# Altium footprint library trafo.PCBLIB: 80 footprints (part 5 of 5)
Each footprint in its own frame and in the unit in brackets; x right, y up, seen from the top. Pads: shape width x height; smd on the part's side, far side on the other; paste and mask are expansions set on the pad; w line width, h text height; cw(c..) or ccw(c..) is an arc to the next point about the centre after c.
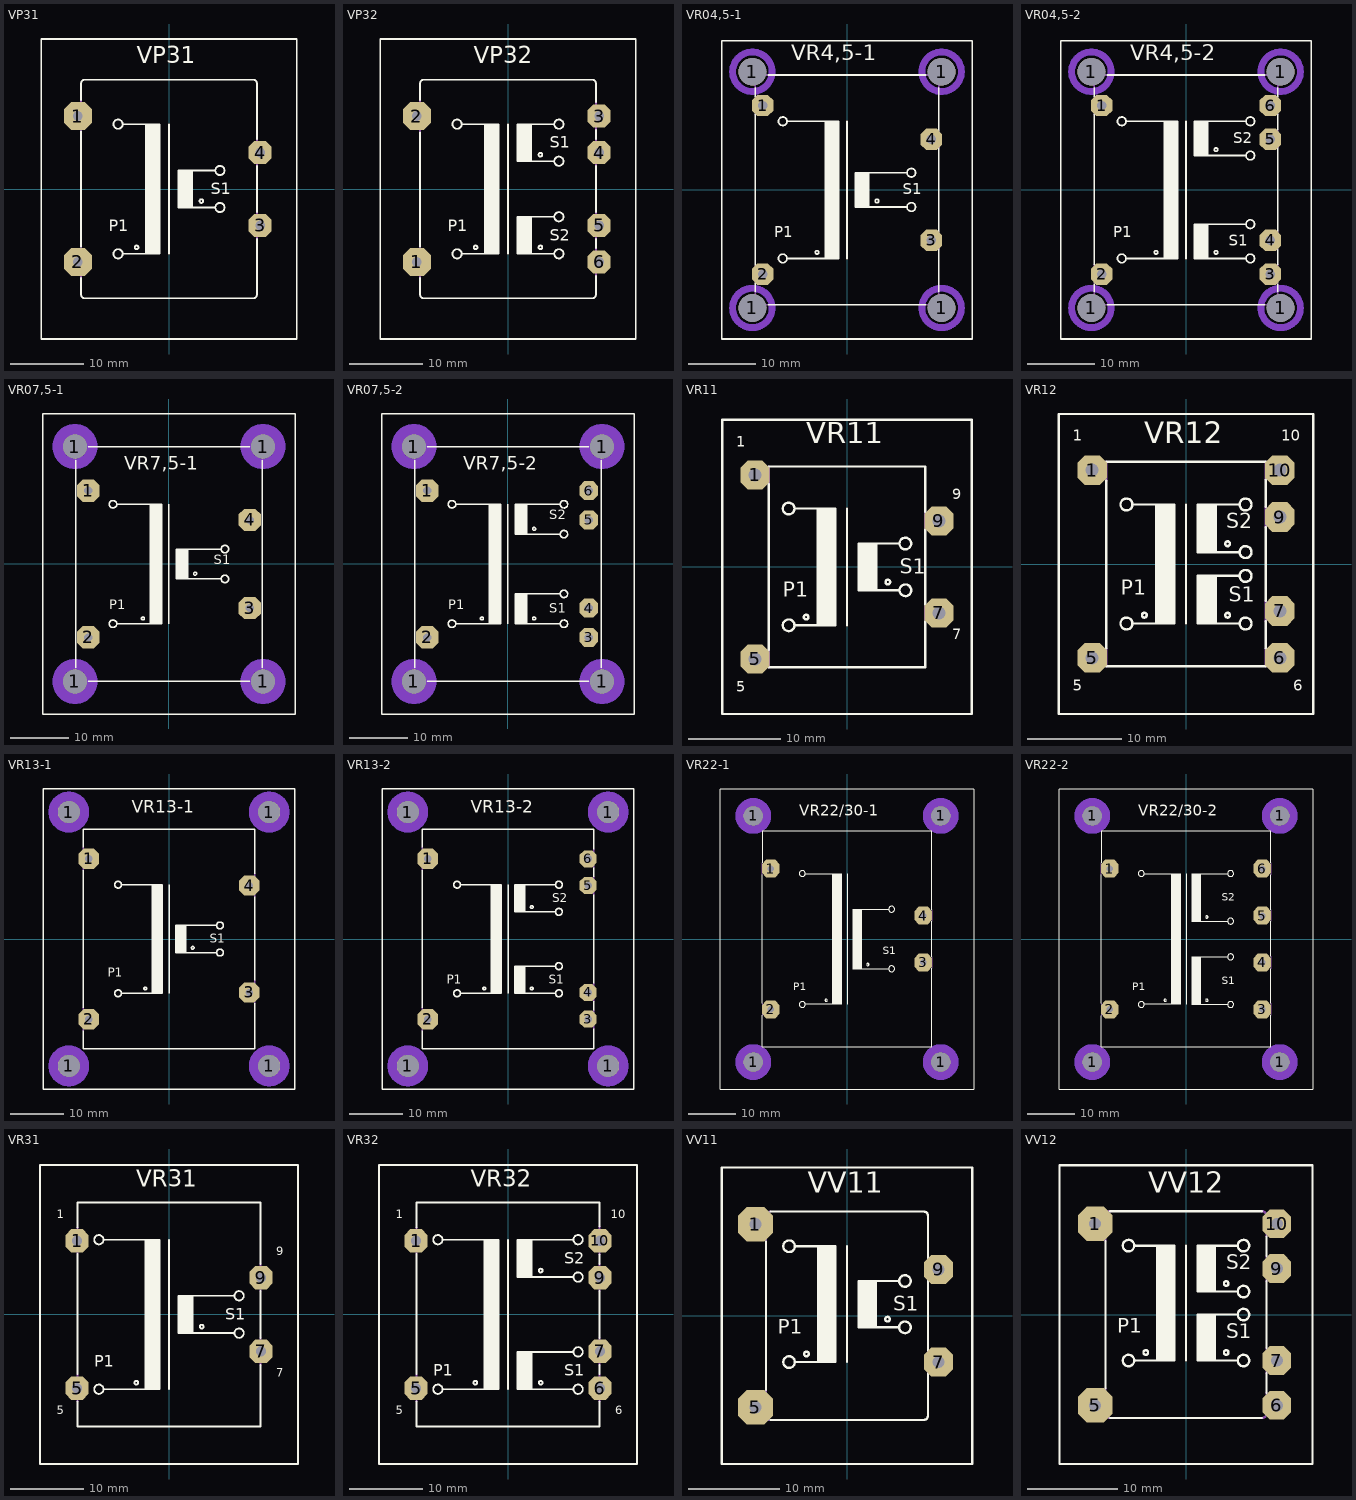
[diagram p4: the footprints below, top view; thin cyan lines are the x and y axes]

## VP31 [mil]
pads (4):
  oct 150x150 hole 52: 1(-492,394) 2(-492,-394)
  oct 125x125 hole 52: 3(492,-197) 4(492,197)
Top Overlay:
  circle w10: c-175,-315 r10
  circle w10: c175,-65 r10
  circle w10: c-275,-350 r25
  circle w10: c-275,350 r25
  circle w10: c275,-100 r25
  circle w10: c275,100 r25
  rectangle: -125,-350 -50,350
  rectangle: 50,-100 125,100
  lines w10: -475,-480 -475,-570 ccw(c-455,-570) -455,-590 455,-590 ccw(c455,-570) 475,-570 475,-270 ; -475,-310 -475,310 ; -475,480 -475,570 cw(c-455,570) -455,590 455,590 cw(c455,570) 475,570 475,270 ; -250,-350 -125,-350 ; -250,350 -125,350 ; 0,-350 0,350 ; 250,-100 125,-100 ; 250,100 125,100 ; 475,-125 475,125 ; -125,-350 -125,350 ; -125,-350 -50,-350 -50,350 -125,350 ; 125,-100 50,-100 50,100 125,100 ; 125,-100 125,100 ; -690,-810 690,-810 690,810 -690,810 -690,-810
  text "P1" at -325,-250 h108.5
  text "S1" at 225,-50 h108.5
  text "VP31" at -175,650 h155
Mechanical 16:
  lines w10: -475,-480 -475,-310 ; -475,310 -475,480 ; 475,-270 475,-125 ; 475,125 475,270

## VP32 [mil]
pads (6):
  oct 150x150 hole 52: 1(-492,-394) 2(-492,394)
  oct 125x125 hole 52: 3(492,394) 4(492,197) 5(492,-197) 6(492,-394)
Top Overlay:
  circle w10: c-175,-315 r10
  circle w10: c175,185 r10
  circle w10: c175,-315 r10
  circle w10: c-275,-350 r25
  circle w10: c-275,350 r25
  circle w10: c275,-350 r25
  circle w10: c275,-150 r25
  circle w10: c275,150 r25
  circle w10: c275,350 r25
  rectangle: -125,-350 -50,350
  rectangle: 50,150 125,350
  rectangle: 50,-350 125,-150
  lines w10: -475,-480 -475,-570 ccw(c-455,-570) -455,-590 455,-590 ccw(c455,-570) 475,-570 475,-470 ; -475,-310 -475,305 ; -475,480 -475,570 cw(c-455,570) -455,590 455,590 cw(c455,570) 475,570 475,470 ; -250,-350 -125,-350 ; -250,350 -125,350 ; 0,-350 0,350 ; 250,-350 125,-350 ; 250,-150 125,-150 ; 250,150 125,150 ; 250,350 125,350 ; 475,-320 475,-270 ; 475,-125 475,125 ; 475,270 475,320 ; -125,-350 -125,350 ; -125,-350 -50,-350 -50,350 -125,350 ; 125,-350 50,-350 50,-150 125,-150 ; 125,-350 125,-150 ; 125,150 50,150 50,350 125,350 ; 125,150 125,350 ; -690,-810 690,-810 690,810 -690,810 -690,-810
  text "P1" at -325,-250 h108.5
  text "S1" at 225,200 h108.5
  text "S2" at 225,-300 h108.5
  text "VP32" at -185,650 h155
Mechanical 16:
  lines w10: -475,-480 -475,-310 ; -475,305 -475,480 ; 475,-470 475,-320 ; 475,-270 475,-125 ; 475,125 475,270 ; 475,320 475,470

## VR04,5-1 [mil]
pads (8):
  round 162 hole 162: 1(-552,-689) 1(-552,689) 1(552,-689) 1(552,689)
  oct 125x125 hole 55: 1(-492,492) 2(-492,-492) 3(492,-295) 4(492,295)
Bottom Layer keep-out:
  circle w40: c-552,-689 r115
  circle w40: c-552,689 r115
  circle w40: c552,689 r115
  circle w40: c552,-689 r115
Top Overlay:
  circle w10: c-175,-365 r10
  circle w10: c175,-65 r10
  circle w10: c-375,-400 r25
  circle w10: c-375,400 r25
  circle w10: c375,100 r25
  circle w10: c375,-100 r25
  rectangle: -125,-400 -50,400
  rectangle: 50,-100 125,100
  lines w10: -535,-595 -535,-545 ; -535,-440 -535,440 ; -535,545 -535,595 ; -460,-670 460,-670 ; -460,670 460,670 ; -350,-400 -125,-400 ; -350,400 -125,400 ; 0,-400 0,400 ; 350,-100 125,-100 ; 350,100 125,100 ; 535,-595 535,-345 ; 535,-245 535,245 ; 535,345 535,595 ; -125,-400 -125,400 ; -125,-400 -50,-400 -50,400 -125,400 ; 125,-100 50,-100 50,100 125,100 ; 125,-100 125,100 ; -730,-870 730,-870 730,870 -730,870 -730,-870
  text "VR4,5-1" at -325,725 h155
  text "S1" at 325,-50 h108.5
  text "P1" at -425,-300 h108.5
Mechanical 16:
  lines w10: -535,-595 -535,-670 -460,-670 ; -535,-545 -535,-440 ; -535,440 -535,545 ; -535,595 -535,670 -460,670 ; 460,-670 535,-670 535,-595 ; 460,670 535,670 535,595 ; 535,-345 535,-245 ; 535,245 535,345
Via Holes:
  circle w40: c-552,-689 r115
  circle w40: c-552,689 r115
  circle w40: c552,689 r115
  circle w40: c552,-689 r115

## VR04,5-2 [mil]
pads (10):
  round 162 hole 162: 1(-552,-689) 1(-552,689) 1(552,-689) 1(552,689)
  oct 125x125 hole 55: 1(-492,492) 2(-492,-492) 3(492,-492) 4(492,-295) 5(492,295) 6(492,492)
Bottom Layer keep-out:
  circle w40: c-552,-689 r115
  circle w40: c-552,689 r115
  circle w40: c552,689 r115
  circle w40: c552,-689 r115
Top Overlay:
  circle w10: c-175,-365 r10
  circle w10: c175,235 r10
  circle w10: c-375,-400 r25
  circle w10: c-375,400 r25
  circle w10: c375,400 r25
  circle w10: c375,200 r25
  circle w10: c175,-365 r10
  circle w10: c375,-200 r25
  circle w10: c375,-400 r25
  rectangle: -125,-400 -50,400
  rectangle: 50,-400 125,-200
  rectangle: 50,200 125,400
  lines w10: -535,-595 -535,-550 ; -535,-435 -535,440 ; -535,545 -535,595 ; -460,-670 460,-670 ; -460,670 460,670 ; -350,-400 -125,-400 ; -350,400 -125,400 ; 0,-400 0,400 ; 350,-400 125,-400 ; 350,-200 125,-200 ; 350,200 125,200 ; 350,400 125,400 ; 535,-595 535,-550 ; 535,-435 535,-350 ; 535,-240 535,245 ; 535,350 535,440 ; 535,545 535,595 ; -125,-400 -125,400 ; -125,-400 -50,-400 -50,400 -125,400 ; 125,-400 50,-400 50,-200 125,-200 ; 125,-400 125,-200 ; 125,200 50,200 50,400 125,400 ; 125,200 125,400 ; -730,-870 -730,870 730,870 730,-870 -730,-870
  text "VR4,5-2" at -325,725 h155
  text "P1" at -425,-300 h108.5
  text "S1" at 250,-350 h108.5
  text "S2" at 275,250 h108.5
Mechanical 16:
  lines w10: -535,-595 -535,-670 -460,-670 ; -535,-550 -535,-435 ; -535,440 -535,545 ; -535,595 -535,670 -460,670 ; 460,-670 535,-670 535,-595 ; 460,670 535,670 535,595 ; 535,-550 535,-435 ; 535,-350 535,-240 ; 535,245 535,350 ; 535,440 535,545
Via Holes:
  circle w40: c-552,-689 r115
  circle w40: c-552,689 r115
  circle w40: c552,689 r115
  circle w40: c552,-689 r115

## VR07,5-1 [mil]
pads (8):
  round 162 hole 162: 1(-630,-787) 1(-630,787) 1(630,-787) 1(630,787)
  oct 150x150 hole 55: 1(-541,492) 2(-541,-492) 3(541,-295) 4(541,295)
Bottom Layer keep-out:
  circle w70: c-630,-787 r115
  circle w70: c-630,787 r115
  circle w70: c630,787 r115
  circle w70: c630,-787 r115
Top Overlay:
  circle w10: c-175,-365 r10
  circle w10: c175,-65 r10
  circle w10: c-375,-400 r25
  circle w10: c-375,400 r25
  circle w10: c375,100 r25
  circle w10: c375,-100 r25
  rectangle: -125,-400 -50,400
  rectangle: 50,-100 125,100
  lines w10: -625,-695 -625,695 ; -540,-785 540,-785 ; -540,785 540,785 ; -350,-400 -125,-400 ; -350,400 -125,400 ; 0,-400 0,400 ; 350,-100 125,-100 ; 350,100 125,100 ; 625,-695 625,695 ; -125,-400 -125,400 ; -125,-400 -50,-400 -50,400 -125,400 ; 125,-100 50,-100 50,100 125,100 ; 125,-100 125,100 ; -845,-1005 -845,1005 845,1005 845,-1005 -845,-1005
  text "VR7,5-1" at -300,600 h155
  text "P1" at -400,-325 h108.5
  text "S1" at 300,-25 h108.5
Mechanical 16:
  lines w10: -625,-695 -625,-785 -540,-785 ; -625,695 -625,785 -540,785 ; 540,-785 625,-785 625,-695 ; 540,785 625,785 625,695
Via Holes:
  circle w70: c-630,-787 r115
  circle w70: c-630,787 r115
  circle w70: c630,787 r115
  circle w70: c630,-787 r115

## VR07,5-2 [mil]
pads (10):
  round 162 hole 162: 1(-630,-787) 1(-630,787) 1(630,-787) 1(630,787)
  oct 150x150 hole 55: 1(-541,492) 2(-541,-492)
  oct 125x125 hole 55: 3(541,-492) 4(541,-295) 5(541,295) 6(541,492)
Bottom Layer keep-out:
  circle w70: c-630,-787 r115
  circle w70: c630,-787 r115
  circle w70: c630,787 r115
  circle w70: c-630,787 r115
Top Overlay:
  circle w10: c-175,-365 r10
  circle w10: c175,235 r10
  circle w10: c-375,-400 r25
  circle w10: c-375,400 r25
  circle w10: c375,400 r25
  circle w10: c375,200 r25
  circle w10: c175,-365 r10
  circle w10: c375,-200 r25
  circle w10: c375,-400 r25
  rectangle: -125,-400 -50,400
  rectangle: 50,-400 125,-200
  rectangle: 50,200 125,400
  lines w10: -625,-695 -625,695 ; -540,-785 540,-785 ; -540,785 540,785 ; -350,-400 -125,-400 ; -350,400 -125,400 ; 0,-400 0,400 ; 350,-400 125,-400 ; 350,-200 125,-200 ; 350,200 125,200 ; 350,400 125,400 ; 625,-695 625,695 ; -125,-400 -125,400 ; -125,-400 -50,-400 -50,400 -125,400 ; 125,-400 50,-400 50,-200 125,-200 ; 125,-400 125,-200 ; 125,200 50,200 50,400 125,400 ; 125,200 125,400 ; -845,-1005 -845,1005 845,1005 845,-1005 -845,-1005
  text "VR7,5-2" at -300,600 h155
  text "P1" at -400,-325 h108.5
  text "S1" at 275,-350 h108.5
  text "S2" at 275,275 h108.5
Mechanical 16:
  lines w10: -625,-695 -625,-785 -540,-785 ; -625,695 -625,785 -540,785 ; 540,-785 625,-785 625,-695 ; 540,785 625,785 625,695
Via Holes:
  circle w70: c-630,-787 r115
  circle w70: c630,-787 r115
  circle w70: c630,787 r115
  circle w70: c-630,787 r115

## VR11 [mil]
pads (4):
  oct 125x125 hole 55: 1(-394,394) 5(-394,-394) 7(394,-197) 9(394,197)
Top Overlay:
  circle w10: c-175,-215 r10
  circle w10: c175,-65 r10
  circle w10: c-250,-250 r25
  circle w10: c-250,250 r25
  circle w10: c250,100 r25
  circle w10: c250,-100 r25
  rectangle: -125,-250 -50,250
  rectangle: 50,-100 125,100
  lines w10: -335,-430 335,-430 335,-235 ; -335,-355 -335,355 ; -335,430 335,430 335,235 ; -225,-250 -125,-250 ; -225,250 -125,250 ; 0,-250 0,250 ; 225,-100 125,-100 ; 225,100 125,100 ; 335,-160 335,160 ; -125,-250 -125,250 ; -125,-250 -50,-250 -50,250 -125,250 ; 125,-100 50,-100 50,100 125,100 ; 125,-100 125,100 ; -535,-630 535,-630 535,630 -535,630 -535,-630
  text "P1" at -275,-150 h108.5
  text "S1" at 225,-50 h108.5
  text "VR11" at -175,500 h155
  text "1" at -475,500 h77.5
  text "5" at -475,-550 h77.5
  text "7" at 450,-325 h77.5
  text "9" at 450,275 h77.5
Mechanical 16:
  lines w10: -335,-430 -335,-355 ; -335,355 -335,430 ; 335,-235 335,-160 ; 335,160 335,235

## VR12 [mil]
pads (6):
  oct 125x125 hole 55: 1(-394,394) 5(-394,-394) 6(394,-394) 7(394,-197) 9(394,197) 10(394,394)
Top Overlay:
  circle w10: c-175,-215 r10
  circle w10: c175,85 r10
  circle w10: c-250,-250 r25
  circle w10: c-250,250 r25
  circle w10: c250,250 r25
  circle w10: c250,50 r25
  circle w10: c175,-215 r10
  circle w10: c250,-50 r25
  circle w10: c250,-250 r25
  rectangle: -125,-250 -50,250
  rectangle: 50,-250 125,-50
  rectangle: 50,50 125,250
  lines w10: -335,-430 335,-430 ; -335,-355 -335,350 ; -335,430 335,430 ; -225,-250 -125,-250 ; -225,250 -125,250 ; 0,-250 0,250 ; 225,-250 125,-250 ; 225,-50 125,-50 ; 225,50 125,50 ; 225,250 125,250 ; 335,-355 335,-240 ; 335,-155 335,155 ; 335,240 335,355 ; -125,-250 -125,250 ; -125,-250 -50,-250 -50,250 -125,250 ; 125,-250 50,-250 50,-50 125,-50 ; 125,-250 125,-50 ; 125,50 50,50 50,250 125,250 ; 125,50 125,250 ; -535,-630 -535,630 535,630 535,-630 -535,-630
  text "P1" at -275,-150 h108.5
  text "S1" at 180,-180 h108.5
  text "S2" at 170,130 h108.5
  text "VR12" at -175,475 h155
  text "1" at -475,500 h77.5
  text "5" at -475,-550 h77.5
  text "6" at 450,-550 h77.5
  text "10" at 400,500 h77.5
Mechanical 16:
  lines w10: -335,-430 -335,-355 ; -335,350 -335,430 ; 335,-430 335,-355 ; 335,-240 335,-155 ; 335,155 335,240 ; 335,355 335,430

## VR13-1 [mil]
pads (8):
  round 162 hole 162: 1(-738,-935) 1(-738,935) 1(738,-935) 1(738,935)
  oct 150x150 hole 55: 1(-591,591) 2(-591,-591) 3(591,-394) 4(591,394)
Bottom Layer keep-out:
  circle w70: c-738,-935 r115
  circle w70: c738,-935 r115
  circle w70: c738,935 r115
  circle w70: c-738,935 r115
Top Overlay:
  circle w10: c-175,-365 r10
  circle w10: c175,-65 r10
  circle w10: c375,100 r25
  circle w10: c375,-100 r25
  circle w10: c-375,-400 r25
  circle w10: c-375,400 r25
  rectangle: -125,-400 -50,400
  rectangle: 50,-100 125,100
  lines w10: -630,-675 -630,-810 630,-810 630,-475 ; -630,-505 -630,505 ; -630,675 -630,810 630,810 630,480 ; -350,-400 -125,-400 ; -350,400 -125,400 ; 0,-400 0,400 ; 350,-100 125,-100 ; 350,100 125,100 ; 630,-305 630,310 ; -125,-400 -125,400 ; -125,-400 -50,-400 -50,400 -125,400 ; 125,-100 50,-100 50,100 125,100 ; 125,-100 125,100 ; -925,-1105 -925,1105 925,1105 925,-1105 -925,-1105
  text "VR13-1" at -275,900 h155
  text "S1" at 300,-50 h108.5
  text "P1" at -450,-300 h108.5
Mechanical 16:
  lines w10: -630,-675 -630,-505 ; -630,505 -630,675 ; 630,-475 630,-305 ; 630,310 630,480
Via Holes:
  circle w70: c-738,-935 r115
  circle w70: c738,-935 r115
  circle w70: c738,935 r115
  circle w70: c-738,935 r115

## VR13-2 [mil]
pads (10):
  round 162 hole 162: 1(-738,-935) 1(-738,935) 1(738,-935) 1(738,935)
  oct 150x150 hole 55: 1(-591,591) 2(-591,-591)
  oct 125x125 hole 55: 3(591,-591) 4(591,-394) 5(591,394) 6(591,591)
Bottom Layer keep-out:
  circle w70: c-738,-935 r115
  circle w70: c738,-935 r115
  circle w70: c738,935 r115
  circle w70: c-738,935 r115
Top Overlay:
  circle w10: c-175,-365 r10
  circle w10: c175,235 r10
  circle w10: c175,-365 r10
  circle w10: c375,400 r25
  circle w10: c375,200 r25
  circle w10: c375,-200 r25
  circle w10: c375,-400 r25
  circle w10: c-375,-400 r25
  circle w10: c-375,400 r25
  rectangle: -125,-400 -50,400
  rectangle: 50,-400 125,-200
  rectangle: 50,200 125,400
  lines w10: -630,-675 -630,-810 630,-810 630,-660 ; -630,-505 -630,505 ; -630,675 -630,810 630,810 630,660 ; -350,-400 -125,-400 ; -350,400 -125,400 ; 0,-400 0,400 ; 350,-400 125,-400 ; 350,-200 125,-200 ; 350,200 125,200 ; 350,400 125,400 ; 630,-525 630,-460 ; 630,-325 630,325 ; 630,460 630,525 ; -125,-400 -125,400 ; -125,-400 -50,-400 -50,400 -125,400 ; 125,-400 50,-400 50,-200 125,-200 ; 125,-400 125,-200 ; 125,200 50,200 50,400 125,400 ; 125,200 125,400 ; -925,-1105 -925,1105 925,1105 925,-1105 -925,-1105
  text "VR13-2" at -275,900 h155
  text "S1" at 300,-350 h108.5
  text "P1" at -450,-350 h108.5
  text "S2" at 325,250 h108.5
Mechanical 16:
  lines w10: -630,-675 -630,-505 ; -630,505 -630,675 ; 630,-660 630,-525 ; 630,-460 630,-325 ; 630,325 630,460 ; 630,525 630,660
Via Holes:
  circle w70: c-738,-935 r115
  circle w70: c738,-935 r115
  circle w70: c738,935 r115
  circle w70: c-738,935 r115

## VR22-1 [mil]
pads (8):
  round 162 hole 162: 1(-787,-1034) 1(-787,1034) 1(787,-1034) 1(787,1034)
  oct 150x150 hole 55: 1(-640,591) 2(-640,-591) 3(640,-197) 4(640,197)
Bottom Layer keep-out:
  circle w70: c-787,-1034 r115
  circle w70: c-787,1034 r115
  circle w70: c787,-1034 r115
  circle w70: c787,1034 r115
Top Overlay:
  circle w10: c-175,-515 r10
  circle w10: c175,-215 r10
  circle w10: c375,250 r25
  circle w10: c375,-250 r25
  circle w10: c-375,-550 r25
  circle w10: c-375,550 r25
  rectangle: -125,-550 -50,550
  rectangle: 50,-250 125,250
  lines w10: -710,-640 -710,-905 710,-905 710,-245 ; -710,-540 -710,540 ; -710,640 -710,905 710,905 710,245 ; -350,-550 -125,-550 ; -350,550 -125,550 ; 0,-550 0,550 ; 350,-250 125,-250 ; 350,250 125,250 ; 710,-150 710,150 ; -125,-550 -125,550 ; -125,-550 -50,-550 -50,550 -125,550 ; 125,-250 50,-250 50,250 125,250 ; 125,-250 125,250 ; -1065,-1260 -1065,1260 1065,1260 1065,-1260 -1065,-1260
  text "VR22/30-1" at -400,1000 h155
  text "S1" at 300,-150 h108.5
  text "P1" at -450,-450 h108.5
Mechanical 16:
  lines w10: -710,-640 -710,-540 ; -710,540 -710,640 ; 710,-245 710,-150 ; 710,150 710,245
Via Holes:
  circle w70: c-787,-1034 r115
  circle w70: c-787,1034 r115
  circle w70: c787,-1034 r115
  circle w70: c787,1034 r115

## VR22-2 [mil]
pads (10):
  round 162 hole 162: 1(-787,-1034) 1(-787,1034) 1(787,-1034) 1(787,1034)
  oct 150x150 hole 55: 1(-640,591) 2(-640,-591) 3(640,-591) 4(640,-197) 5(640,197) 6(640,591)
Bottom Layer keep-out:
  circle w70: c-787,-1034 r115
  circle w70: c-787,1034 r115
  circle w70: c787,-1034 r115
  circle w70: c787,1034 r115
Top Overlay:
  circle w10: c-175,-515 r10
  circle w10: c175,-515 r10
  circle w10: c175,185 r10
  circle w10: c375,-150 r25
  circle w10: c375,150 r25
  circle w10: c375,550 r25
  circle w10: c-375,550 r25
  circle w10: c-375,-550 r25
  circle w10: c375,-550 r25
  rectangle: -125,-550 -50,550
  rectangle: 50,-550 125,-150
  rectangle: 50,150 125,550
  lines w10: -710,-645 -710,-905 710,-905 710,-640 ; -710,-540 -710,540 ; -710,640 -710,905 710,905 710,640 ; -350,-550 -125,-550 ; -350,550 -125,550 ; 0,-550 0,550 ; 350,-550 125,-550 ; 350,-150 125,-150 ; 350,150 125,150 ; 350,550 125,550 ; 710,-540 710,-250 ; 710,-145 710,150 ; 710,245 710,540 ; -125,-550 -125,550 ; -125,-550 -50,-550 -50,550 -125,550 ; 125,-550 50,-550 50,-150 125,-150 ; 125,-550 125,-150 ; 125,150 50,150 50,550 125,550 ; 125,150 125,550 ; -1065,-1260 -1065,1260 1065,1260 1065,-1260 -1065,-1260
  text "VR22/30-2" at -400,1000 h155
  text "S1" at 300,-400 h108.5
  text "P1" at -450,-450 h108.5
  text "S2" at 300,300 h108.5
Mechanical 16:
  lines w10: -710,-645 -710,-540 ; -710,540 -710,640 ; 710,-640 710,-540 ; 710,-250 710,-145 ; 710,150 710,245 ; 710,540 710,640
Via Holes:
  circle w70: c-787,-1034 r115
  circle w70: c-787,1034 r115
  circle w70: c787,-1034 r115
  circle w70: c787,1034 r115

## VR31 [mil]
pads (4):
  oct 125x125 hole 55: 1(-492,394) 5(-492,-394) 7(492,-197) 9(492,197)
Top Overlay:
  circle w10: c-175,-365 r10
  circle w10: c175,-65 r10
  circle w10: c-375,-400 r25
  circle w10: c-375,400 r25
  circle w10: c375,100 r25
  circle w10: c375,-100 r25
  rectangle: -125,-400 -50,400
  rectangle: 50,-100 125,100
  lines w10: -490,-465 -490,-600 490,-600 490,-270 ; -490,-320 -490,325 ; -490,465 -490,600 490,600 490,270 ; -350,-400 -125,-400 ; -350,400 -125,400 ; 0,-400 0,400 ; 350,-100 125,-100 ; 350,100 125,100 ; 490,-125 490,125 ; -125,-400 -125,400 ; -125,-400 -50,-400 -50,400 -125,400 ; 125,-100 50,-100 50,100 125,100 ; 125,-100 125,100 ; -690,-800 690,-800 690,800 -690,800 -690,-800
  text "S1" at 300,-50 h108.5
  text "P1" at -400,-300 h108.5
  text "VR31" at -175,650 h155
  text "1" at -600,500 h77.5
  text "5" at -600,-550 h77.5
  text "7" at 575,-350 h77.5
  text "9" at 575,300 h77.5
Mechanical 16:
  lines w10: -490,-465 -490,-320 ; -490,325 -490,465 ; 490,-270 490,-125 ; 490,125 490,270

## VR32 [mil]
pads (6):
  oct 125x125 hole 55: 1(-492,394) 5(-492,-394) 6(492,-394) 7(492,-197) 9(492,197) 10(492,394)
Top Overlay:
  circle w10: c-175,-365 r10
  circle w10: c175,235 r10
  circle w10: c-375,-400 r25
  circle w10: c-375,400 r25
  circle w10: c375,400 r25
  circle w10: c375,200 r25
  circle w10: c175,-365 r10
  circle w10: c375,-200 r25
  circle w10: c375,-400 r25
  rectangle: -125,-400 -50,400
  rectangle: 50,-400 125,-200
  rectangle: 50,200 125,400
  lines w10: -490,-465 -490,-600 490,-600 490,-465 ; -490,-320 -490,325 ; -490,465 -490,600 490,600 490,470 ; -350,-400 -125,-400 ; -350,400 -125,400 ; 0,-400 0,400 ; 350,-400 125,-400 ; 350,-200 125,-200 ; 350,200 125,200 ; 350,400 125,400 ; 490,-320 490,-270 ; 490,-125 490,125 ; 490,270 490,320 ; -125,-400 -125,400 ; -125,-400 -50,-400 -50,400 -125,400 ; 125,-400 50,-400 50,-200 125,-200 ; 125,-400 125,-200 ; 125,200 50,200 50,400 125,400 ; 125,200 125,400 ; -690,-800 -690,800 690,800 690,-800 -690,-800
  text "S1" at 300,-350 h108.5
  text "S2" at 300,250 h108.5
  text "P1" at -400,-350 h108.5
  text "VR32" at -200,650 h155
  text "1" at -600,500 h77.5
  text "5" at -600,-550 h77.5
  text "6" at 575,-550 h77.5
  text "10" at 550,500 h77.5
Mechanical 16:
  lines w10: -490,-465 -490,-320 ; -490,325 -490,465 ; 490,-465 490,-320 ; 490,-270 490,-125 ; 490,125 490,270 ; 490,320 490,470

## VV11 [mil]
pads (4):
  oct 150x150 hole 52: 1(-395,395) 5(-395,-395)
  oct 125x125 hole 52: 7(395,-200) 9(395,200)
Top Overlay:
  circle w10: c-175,-165 r10
  circle w10: c175,-15 r10
  circle w10: c-250,-200 r25
  circle w10: c-250,300 r25
  circle w10: c250,150 r25
  circle w10: c250,-50 r25
  rectangle: -125,-200 -50,300
  rectangle: 50,-50 125,150
  lines w10: -350,-320 -350,320 ; -330,-450 330,-450 ccw(c330,-430) 350,-430 350,-250 ; -330,450 330,450 cw(c330,430) 350,430 350,250 ; -225,-200 -125,-200 ; -225,300 -125,300 ; 0,-200 0,300 ; 225,-50 125,-50 ; 225,150 125,150 ; 350,-150 350,150 ; -125,-200 -125,300 ; -125,-200 -50,-200 -50,300 -125,300 ; 125,-50 50,-50 50,150 125,150 ; 125,-50 125,150 ; -540,-640 540,-640 540,640 -540,640 -540,-640
  text "S1" at 200,0 h108.5
  text "P1" at -300,-100 h108.5
  text "VV11" at -170,500 h155
Mechanical 16:
  lines w10: -350,-320 -350,-430 ccw(c-330,-430) -330,-450 ; -350,320 -350,430 cw(c-330,430) -330,450 ; 350,-250 350,-150 ; 350,150 350,250

## VV12 [mil]
pads (6):
  oct 150x150 hole 52: 1(-395,395) 5(-395,-395)
  oct 125x125 hole 52: 6(395,-395) 7(395,-200) 9(395,200) 10(395,395)
Top Overlay:
  circle w10: c-175,-165 r10
  circle w10: c175,135 r10
  circle w10: c175,-165 r10
  circle w10: c-250,-200 r25
  circle w10: c-250,300 r25
  circle w10: c250,300 r25
  circle w10: c250,-200 r25
  circle w10: c250,0 r25
  circle w10: c250,100 r25
  rectangle: -125,-200 -50,300
  rectangle: 50,100 125,300
  rectangle: 50,-200 125,0
  lines w10: -350,-320 -350,320 ; -330,-450 330,-450 ; -330,450 330,450 ; -225,-200 -125,-200 ; -225,300 -125,300 ; 0,-200 0,300 ; 225,-200 125,-200 ; 225,0 125,0 ; 225,100 125,100 ; 225,300 125,300 ; 350,-340 350,-255 ; 350,-145 350,145 ; 350,255 350,340 ; -125,-200 -125,300 ; -125,-200 -50,-200 -50,300 -125,300 ; 125,-200 50,-200 50,0 125,0 ; 125,-200 125,0 ; 125,100 50,100 50,300 125,300 ; 125,100 125,300 ; -550,-650 550,-650 550,650 -550,650 -550,-650
  text "S1" at 175,-125 h108.5
  text "P1" at -300,-100 h108.5
  text "S2" at 175,175 h108.5
  text "VV12" at -165,500 h155
Mechanical 16:
  lines w10: -350,-320 -350,-430 ccw(c-330,-430) -330,-450 ; -350,320 -350,430 cw(c-330,430) -330,450 ; 330,-450 ccw(c330,-430) 350,-430 350,-340 ; 330,450 cw(c330,430) 350,430 350,340 ; 350,-255 350,-145 ; 350,145 350,255